# Altium footprint library 6N13XS.PcbLib: 1 footprints
Each footprint in its own frame and in the unit in brackets; x right, y up, seen from the top. Pads: shape width x height; smd on the part's side, far side on the other; paste and mask are expansions set on the pad; w line width, h text height; cw(c..) or ccw(c..) is an arc to the next point about the centre after c.
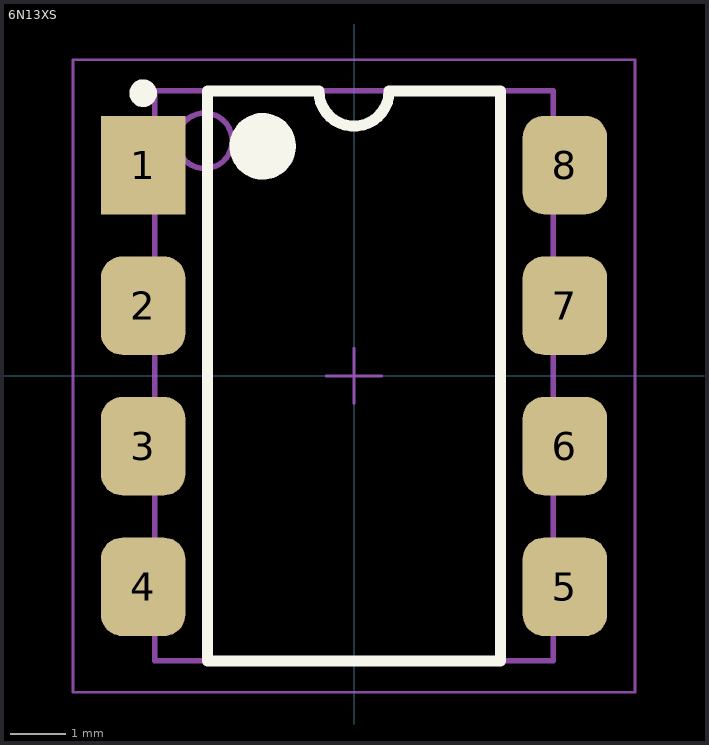
[diagram p0: the footprint, top view; thin cyan lines are the x and y axes]

## 6N13XS [mil]
pads (8):
  rect 60x70 smd: 1(-150,150)
  rrect50% 60x70 smd: 2(-150,50) 3(-150,-50) 4(-150,-150) 5(150,-150) 6(150,-50) 7(150,50) 8(150,150)
Top Overlay:
  circle w9.84: c-150,201.18 r4.92
  circle w23.62: c-64.96,163.39 r11.81
  lines w7.87: -104.33,-202.76 -104.33,202.76 -25,202.76 ccw(c0,202.76) 25,202.76 104.33,202.76 104.33,-202.76 -104.33,-202.76
Mechanical 13:
  circle w3.94: c-106.3,167.32 r19.68
  lines w3.94: -141.73,-202.76 -141.73,202.76 141.73,202.76 141.73,-202.76 -141.73,-202.76
Mechanical 15:
  lines w1.97: -19.68,0 19.68,0 ; 0,-19.68 0,19.68 ; -200,-225 200,-225 200,225 -200,225 -200,-225
3D body: height 137.8, standoff 0, extent -105,-205 105,200